# EAGLE library part MIC5318-MLF6 (library johnmamish-micrel)
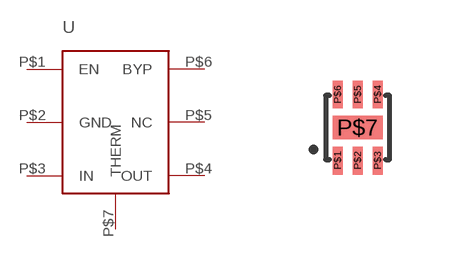
[diagram p0: symbol with the pads of MLF6_1.6X1.6MM; footprint MLF6_1.6X1.6MM]

Designator prefix -

## MIC5318-MLF6  [MLF6_1.6X1.6MM]
P$1  EN
P$2  GND
P$3  IN
P$4  OUT
P$5  NC
P$6  BYP
P$7  THERM

## Footprint MLF6_1.6X1.6MM (pad centres in mm)
smd 0.25 x 0.7: P$1 -0.5,-0.825; P$2 0,-0.825; P$3 0.5,-0.825; P$4 0.5,0.825; P$5 0,0.825; P$6 -0.5,0.825
smd 1.25 x 0.6: P$7 0,0